# EAGLE library part OMRON_G3VM_101FR (library VIPR_Components)
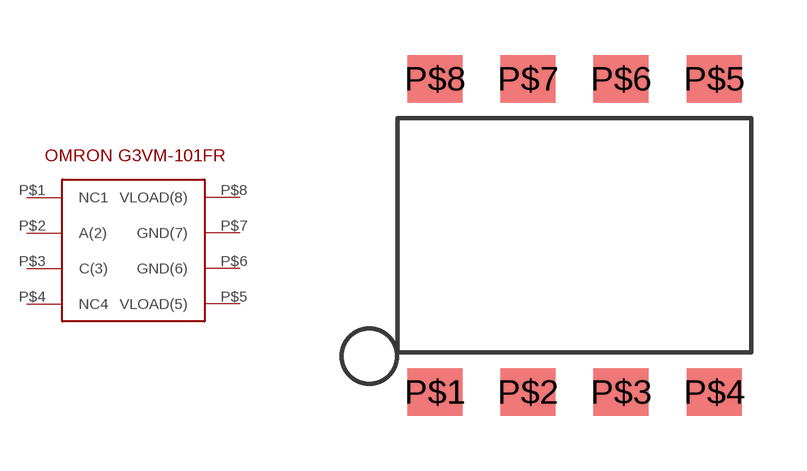
[diagram p8: symbol with the pads of OMRON_G3VM-101FR; footprint OMRON_G3VM-101FR]

Designator prefix -

## OMRON_G3VM_101FR  [OMRON_G3VM-101FR]
P$1  NC1
P$2  A(2)
P$3  C(3)
P$4  NC4
P$5  VLOAD(5)
P$6  GND(6)
P$7  GND(7)
P$8  VLOAD(8)

## Footprint OMRON_G3VM-101FR (pad centres in mm)
smd 1.5 x 1.3: P$1 -3.81,-4.275; P$2 -1.27,-4.275; P$3 1.27,-4.275; P$4 3.81,-4.275; P$5 3.81,4.275; P$6 1.27,4.275; P$7 -1.27,4.275; P$8 -3.81,4.275